# EAGLE library part LT3517 (library IC)
LT3517 is an LED driver. Digikey Part #LT3517EUF#PBF-ND, Manufacture: Linear Technologies, Man #: LT3517EUF#PBF
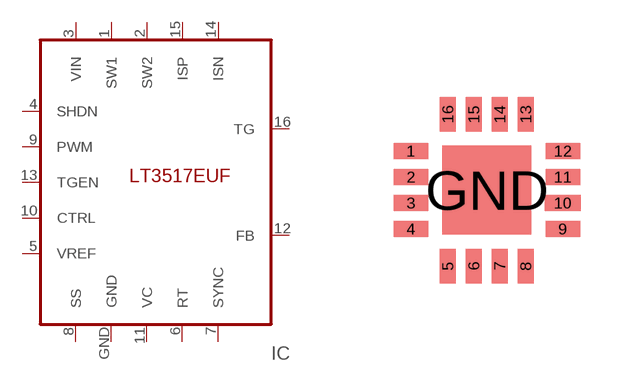
[diagram p204: symbol with the pads of QFN_SM; footprint QFN_SM]

Designator prefix IC

## LT3517  [QFN_SM]
1  SW1
2  SW2
3  VIN
4  SHDN
5  VREF
6  RT
7  SYNC
8  SS
9  PWM
10  CTRL
11  VC
12  FB
13  TGEN
14  ISN
15  ISP
16  TG
GND  GND

## Footprint QFN_SM (pad centres in mm)
smd 0.87 x 0.4: 1 -1.9,0.975; 2 -1.9,0.325; 3 -1.9,-0.325; 4 -1.9,-0.975; 9 1.9,-0.975; 11 1.9,0.325; 12 1.9,0.975
smd 0.4 x 0.87: 5 -0.975,-1.9; 6 -0.325,-1.9; 7 0.325,-1.9; 8 0.975,-1.9; 13 0.975,1.9; 14 0.325,1.9; 15 -0.325,1.9; 16 -0.975,1.9
smd 0.9 x 0.4: 10 1.9,-0.325
smd 2.225 x 2.225: GND 0,0